# EAGLE library part PEC12R-3220F-S0024 (library PEC12R-3220F-S0024)
Encoders HORZ 24DET 24PULSE 20mm SHAFT SPST SW Source: Datasheet <https://www.bourns.com/docs/Product-Datasheets/PEC12R.pdf>
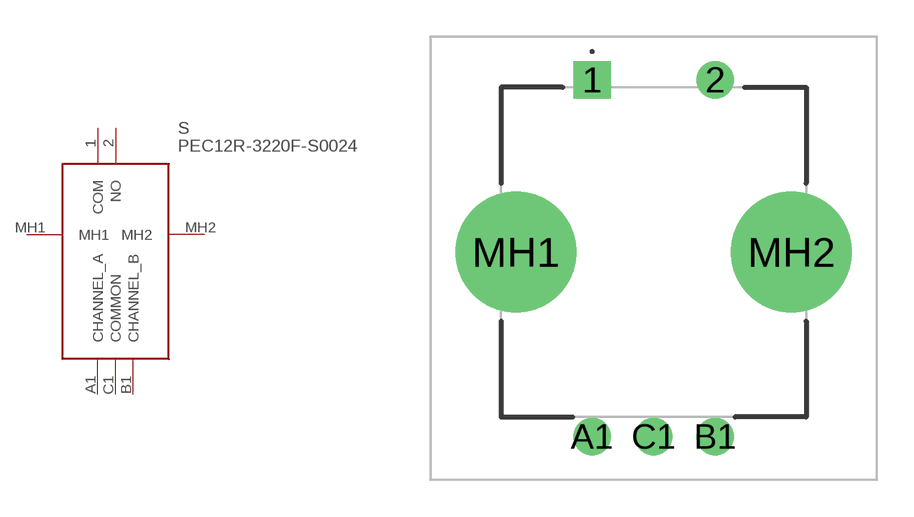
[diagram p0: symbol with the pads of PEC12R3220FS0024; footprint PEC12R3220FS0024]

Designator prefix S

## PEC12R-3220F-S0024 (Description: Encoders HORZ 24DET 24PULSE 20mm SHAFT SPST SW; Height: 22.5mm; Manufacturer_Name: Bourns; Manufacturer_Part_Number: PEC12R-3220F-S0024; Mouser_Part_Number: 652-PEC12R3220FS0024; Mouser_Price-Stock: https://www.mouser.co.uk/ProductDetail/Bourns/PEC12R-3220F-S0024?qs=%252B9%2Fcbd0IE0Tm%252BWkxcjszVA%3D%3D)  [PEC12R3220FS0024]
1  COM
2  NO
A1  CHANNEL_A
B1  CHANNEL_B
C1  COMMON
MH1  MH1
MH2  MH2

## Footprint PEC12R3220FS0024 (pad centres in mm)
PEC12R-3220F-S0024-2
drill 1 pad 1.5 square: 1 0,0
drill 1 pad 1.5: 2 5,0; A1 0,-14.5; B1 5,-14.5; C1 2.5,-14.5
drill 3.28 pad 4.92: MH1 -3.1,-7; MH2 8.1,-7